# Altium footprint library 0878311420.PcbLib: 1 footprints
Each footprint in its own frame and in the unit in brackets; x right, y up, seen from the top. Pads: shape width x height; smd on the part's side, far side on the other; paste and mask are expansions set on the pad; w line width, h text height; cw(c..) or ccw(c..) is an arc to the next point about the centre after c.
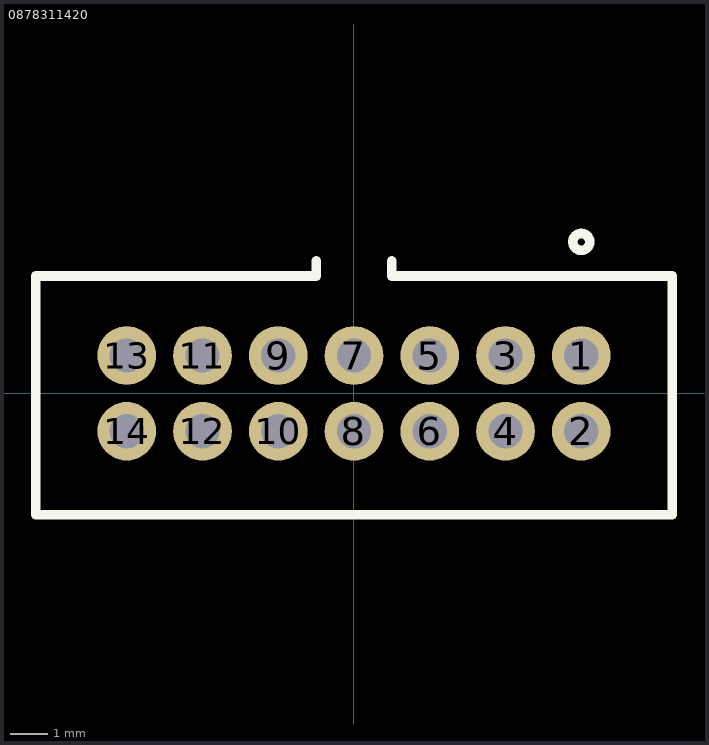
[diagram p0: the footprint, top view; thin cyan lines are the x and y axes]

## 0878311420 [mm]
pads (14):
  round 1.55 hole 0.9: 1(6,1) 2(6,-1) 3(4,1) 4(4,-1) 5(2,1) 6(2,-1) 7(0,1) 8(0,-1) 9(-2,1) 10(-2,-1) 11(-4,1) 12(-4,-1) 13(-6,1) 14(-6,-1)
Top Overlay:
  circle w0.254: c6,4 r0.224
  lines w0.254: -1,3.5 -1,3.1 -2.2,3.1 -8.3,3.1 -8.4,3.1 -8.4,-3.2 8.4,-3.2 8.4,3.1 1,3.1 1,3.5
3D body: height 4.9, standoff -4, extent -8.325,-3.15 8.325,3.15